# EAGLE library part SAM3S4/2/1A_48PIN_LQFP (library Taylor)
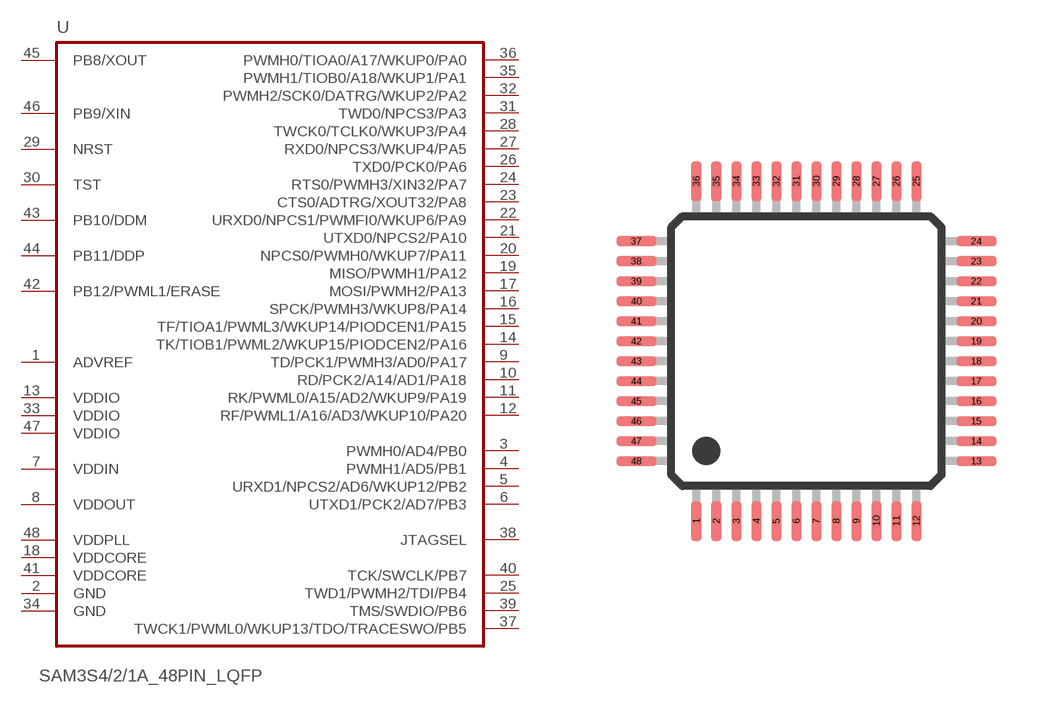
[diagram p23: symbol with the pads of LQFP48; footprint LQFP48]

Designator prefix -

## SAM3S4/2/1A_48PIN_LQFP  [LQFP48]
1  ADVREF
2  GND  pwr
3  PWMH0/AD4/PB0
4  PWMH1/AD5/PB1
5  URXD1/NPCS2/AD6/WKUP12/PB2
6  UTXD1/PCK2/AD7/PB3
7  VDDIN  pwr
8  VDDOUT  pwr
9  TD/PCK1/PWMH3/AD0/PA17
10  RD/PCK2/A14/AD1/PA18
11  RK/PWML0/A15/AD2/WKUP9/PA19
12  RF/PWML1/A16/AD3/WKUP10/PA20
13  VDDIO  pwr
14  TK/TIOB1/PWML2/WKUP15/PIODCEN2/PA16
15  TF/TIOA1/PWML3/WKUP14/PIODCEN1/PA15
16  SPCK/PWMH3/WKUP8/PA14
17  MOSI/PWMH2/PA13
18  VDDCORE  pwr
19  MISO/PWMH1/PA12
20  NPCS0/PWMH0/WKUP7/PA11
21  UTXD0/NPCS2/PA10
22  URXD0/NPCS1/PWMFI0/WKUP6/PA9
23  CTS0/ADTRG/XOUT32/PA8
24  RTS0/PWMH3/XIN32/PA7
25  TWD1/PWMH2/TDI/PB4
26  TXD0/PCK0/PA6
27  RXD0/NPCS3/WKUP4/PA5
28  TWCK0/TCLK0/WKUP3/PA4
29  NRST
30  TST
31  TWD0/NPCS3/PA3
32  PWMH2/SCK0/DATRG/WKUP2/PA2
33  VDDIO  pwr
34  GND  pwr
35  PWMH1/TIOB0/A18/WKUP1/PA1
36  PWMH0/TIOA0/A17/WKUP0/PA0
37  TWCK1/PWML0/WKUP13/TDO/TRACESWO/PB5
38  JTAGSEL
39  TMS/SWDIO/PB6
40  TCK/SWCLK/PB7
41  VDDCORE  pwr
42  PB12/PWML1/ERASE
43  PB10/DDM
44  PB11/DDP
45  PB8/XOUT
46  PB9/XIN
47  VDDIO  pwr
48  VDDPLL  pwr

## Footprint LQFP48 (pad centres in mm)
LQFP48
smd 0.25 x 1: 1 -2.75,-4.25; 2 -2.25,-4.25; 3 -1.75,-4.25; 4 -1.25,-4.25; 5 -0.75,-4.25; 6 -0.25,-4.25; 7 0.25,-4.25; 8 0.75,-4.25; 9 1.25,-4.25; 10 1.75,-4.25; 11 2.25,-4.25; 12 2.75,-4.25; 25 2.75,4.25; 26 2.25,4.25; 27 1.75,4.25; 28 1.25,4.25; 29 0.75,4.25; 30 0.25,4.25; 31 -0.25,4.25; 32 -0.75,4.25; 33 -1.25,4.25; 34 -1.75,4.25; 35 -2.25,4.25; 36 -2.75,4.25
smd 1 x 0.25: 13 4.25,-2.75; 14 4.25,-2.25; 15 4.25,-1.75; 16 4.25,-1.25; 17 4.25,-0.75; 18 4.25,-0.25; 19 4.25,0.25; 20 4.25,0.75; 21 4.25,1.25; 22 4.25,1.75; 23 4.25,2.25; 24 4.25,2.75; 37 -4.25,2.75; 38 -4.25,2.25; 39 -4.25,1.75; 40 -4.25,1.25; 41 -4.25,0.75; 42 -4.25,0.25; 43 -4.25,-0.25; 44 -4.25,-0.75; 45 -4.25,-1.25; 46 -4.25,-1.75; 47 -4.25,-2.25; 48 -4.25,-2.75